# Altium footprint library XCARD_Adapter.PcbLib: 1 footprints
Each footprint in its own frame and in the unit in brackets; x right, y up, seen from the top. Pads: shape width x height; smd on the part's side, far side on the other; paste and mask are expansions set on the pad; w line width, h text height; cw(c..) or ccw(c..) is an arc to the next point about the centre after c.
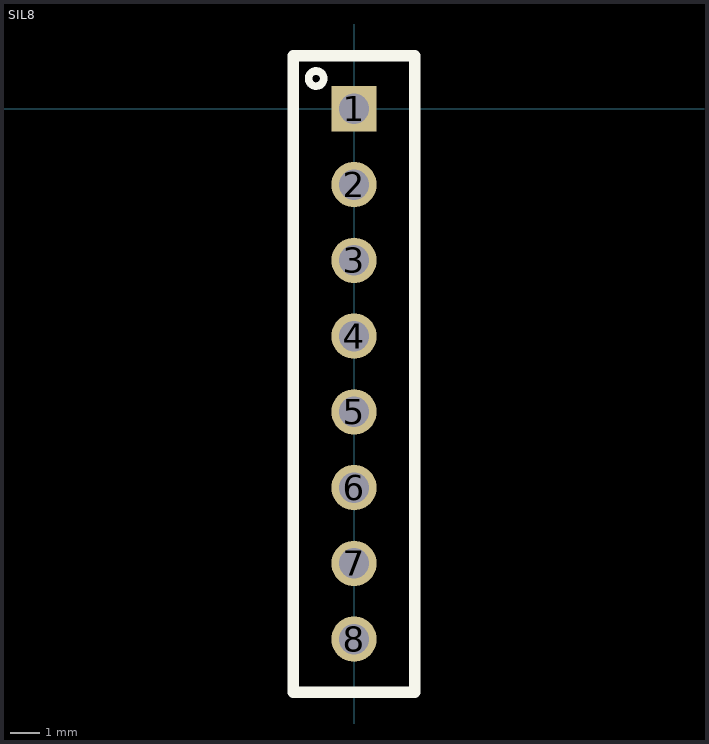
[diagram p0: the footprint, top view; thin cyan lines are the x and y axes]

## SIL8 [mil]
pads (8):
  rect 60x60 hole 40: 1(0,0)
  round 60 hole 40: 2(0,-100) 3(0,-200) 4(0,-300) 5(0,-400) 6(0,-500) 7(0,-600) 8(0,-700)
Top Overlay:
  circle w10: c-50,40 r10
  lines w15: -80,-770 80,-770 80,70 -80,70 -80,0 -80,-770
3D body: height 314.96, standoff 78.74, extent -80,-770 80,70
3D body: height 78.74, standoff 0, extent -19.68,-19.68 19.68,19.68
3D body: height 78.74, standoff 0, extent -19.68,-119.69 19.68,-80.31
3D body: height 78.74, standoff 0, extent -19.68,-219.69 19.68,-180.31
3D body: height 78.74, standoff 0, extent -19.68,-319.69 19.68,-280.31
3D body: height 78.74, standoff 0, extent -19.68,-419.69 19.68,-380.31
3D body: height 78.74, standoff 0, extent -19.68,-519.68 19.68,-480.31
3D body: height 78.74, standoff 0, extent -19.68,-619.68 19.68,-580.32
3D body: height 78.74, standoff 0, extent -19.68,-719.68 19.68,-680.32